# EAGLE library part STM32F4_PROZESSORBOARD (library tera-boards)
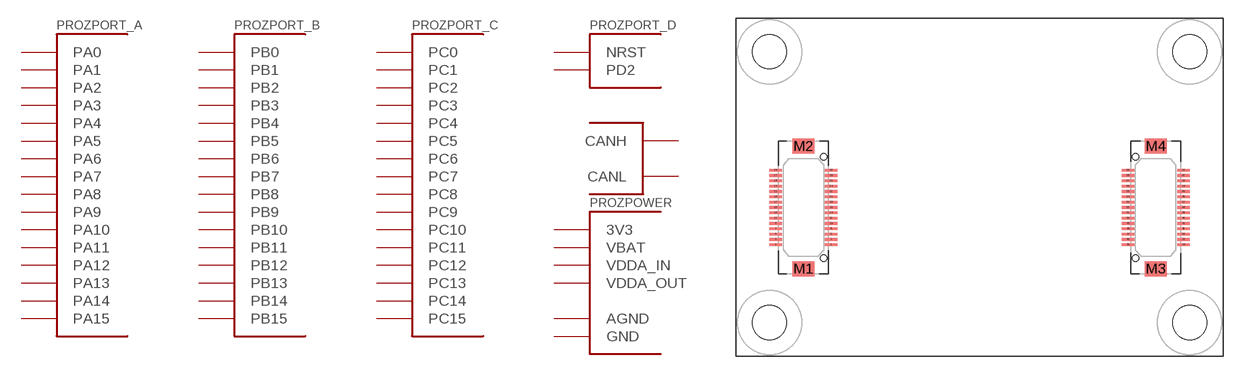
[diagram p0: symbol with the pads of STM32F4_PROZESSORBOARD; footprint STM32F4_PROZESSORBOARD]

Designator prefix PROZ; gates PORT_A=PORT_A PORT_B=PORT_B PORT_C=PORT_C POWER=POWER CAN=CAN PORT_D=NRST_PD2

## STM32F4_PROZESSORBOARDRPZ  [STM32F4_PROZESSORBOARD]
1  POWER:AGND  pas
2  POWER:VDDA_IN  pas
3  PORT_A:PA2
4  POWER:VDDA_OUT  pas
5  PORT_A:PA1
6  POWER:VBAT  pas
7  PORT_A:PA0
8  PORT_B:PB9
9  PORT_C:PC3
10  PORT_B:PB8
11  PORT_C:PC2
12  PORT_B:PB7
13  PORT_C:PC1
14  PORT_B:PB6
15  PORT_C:PC0
16  PORT_A:PA15
17  PORT_D:NRST
18  PORT_A:PA14
19  PORT_C:PC15
20  PORT_B:PB3
21  PORT_C:PC14
22  PORT_B:PB4
23  PORT_C:PC13
24  PORT_A:PA12
25  PORT_B:PB5
26  PORT_A:PA11
27  PORT_D:PD2
28  PORT_C:PC10
29  PORT_C:PC12
30  PORT_C:PC11
31  CAN:CANH
32  CAN:CANL
33  PORT_B:PB14
34  PORT_B:PB11
35  PORT_B:PB10
36  PORT_B:PB2
37  PORT_B:PB1
38  PORT_B:PB0
39  PORT_C:PC5
40  PORT_C:PC4
41  PORT_A:PA7
42  PORT_A:PA6
43  PORT_A:PA4
44  PORT_A:PA3
45  POWER:3V3  pas
46  POWER:3V3  pas
47  POWER:GND  pas
48  POWER:GND  pas
49  PORT_B:PB13
50  PORT_B:PB12
51  PORT_B:PB15
52  PORT_C:PC6
53  PORT_C:PC7
54  PORT_C:PC8
55  PORT_C:PC9
56  PORT_A:PA8
57  PORT_A:PA9
58  PORT_A:PA10
59  PORT_A:PA13
60  PORT_A:PA5

## Footprint STM32F4_PROZESSORBOARD (pad centres in mm)
smd 1.2 x 0.25: 1 3.75,10.47; 2 8.95,10.47; 3 3.75,10.97; 4 8.95,10.97; 5 3.75,11.47; 6 8.95,11.47; 7 3.75,11.97; 8 8.95,11.97; 9 3.75,12.47; 10 8.95,12.47; 11 3.75,12.97; 12 8.95,12.97; 13 3.75,13.47; 14 8.95,13.47; 15 3.75,13.97; 16 8.95,13.97; 17 3.75,14.47; 18 8.95,14.47; 19 3.75,14.97; 20 8.95,14.97; 21 3.75,15.47; 22 8.95,15.47; 23 3.75,15.97; 24 8.95,15.97; 25 3.75,16.47; 26 8.95,16.47; 27 3.75,16.97; 28 8.95,16.97; 29 3.75,17.47; 30 8.95,17.47; 31 41.97,17.47; 32 41.97,16.97; 33 41.97,16.47; 34 41.97,15.97; 35 41.97,15.47; 36 41.97,14.97; 37 41.97,14.47; 38 41.97,13.97; 39 41.97,13.47; 40 41.97,12.97; 41 41.97,12.47; 42 41.97,11.97; 43 41.97,10.97; 44 41.97,10.47; 45 36.77,10.47; 46 36.77,10.97; 47 36.77,11.47; 48 36.77,11.97; 49 36.77,12.47; 50 36.77,12.97; 51 36.77,13.47; 52 36.77,13.97; 53 36.77,14.47; 54 36.77,14.97; 55 36.77,15.47; 56 36.77,15.97; 57 36.77,16.47; 58 36.77,16.97; 59 36.77,17.47; 60 41.97,11.47
smd 2.1 x 1.4: M1 6.35,8.22; M2 6.35,19.72; M3 39.37,8.22; M4 39.37,19.72
hole 3.2 at 3.175,3.175
hole 3.2 at 3.175,28.575
hole 3.2 at 42.545,28.575
hole 3.2 at 42.545,3.175
hole 0.6 at 8.25,9.22
hole 0.6 at 8.25,18.72
hole 0.6 at 37.47,18.72
hole 0.6 at 37.47,9.22